# Altium footprint library TCK145.PcbLib: 1 footprints
Each footprint in its own frame and in the unit in brackets; x right, y up, seen from the top. Pads: shape width x height; smd on the part's side, far side on the other; paste and mask are expansions set on the pad; w line width, h text height; cw(c..) or ccw(c..) is an arc to the next point about the centre after c.
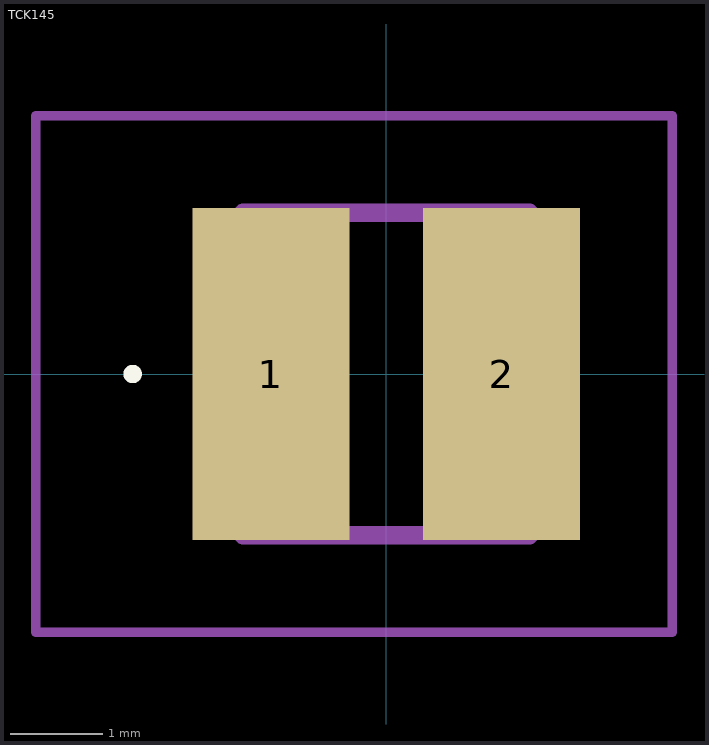
[diagram p0: the footprint, top view; thin cyan lines are the x and y axes]

## TCK145 [mm]
pads (2):
  rect 1.7x3.6 smd: 1(-1.25,0) 2(1.25,0)
Top Overlay:
  lines w0.1: -2.8,0 -2.8,0 ; -2.8,0 ccw(c-2.75,0) -2.7,0 ; -2.8,0 cw(c-2.75,0) -2.7,0 ; -2.7,0 -2.7,0
Mechanical 15:
  lines w0.2: -1.55,-1.75 1.55,-1.75 1.55,1.75 -1.55,1.75 -1.55,-1.75
Mechanical 20:
  lines w0.1: -3.8,-2.8 3.1,-2.8 3.1,2.8 -3.8,2.8 -3.8,-2.8